# Altium schematic symbol library CSD25402Q3A.SchLib: 1 symbol
Pins are listed as number, name and electrical type; pins without a type are passive.

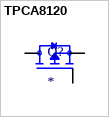
[diagram p0: symbol TPCA8120]

## TPCA8120
designator Q?
-20V, P ch NexFET MOSFET, single SON 3x3, 8.9mOhm 8-VSONP -55 to 150; MF: Texas Instruments; MP: CSD25402Q3A; Purchase-URL: https://pricing.snapeda.com/search/part/CSD25402Q3A/?ref=eda; SnapEDA_Link: https://www.snapeda.com/parts/CSD25402Q3A/Texas%20Instruments/view-part/523122/?ref=snap; Package: VSONP-8 Texas Instruments; Price: None; Availability: Good; Check_prices: https://www.snapeda.com/parts/CSD25402Q3A/Texas%20Instruments/view-part/523122/?ref=eda; Value: *
footprint TRANS_CSD25402Q3A
pins: 1 D, 2 D, 3 D, 4 G, 9 S